# Altium schematic symbol library Connector2x2.Schlib: 1 symbol
Pins are listed as number, name and electrical type; pins without a type are passive.

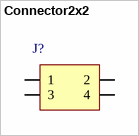
[diagram p0: symbol Connector2x2]

## Connector2x2
designator J?
pins: 1, 2, 3, 4